# Altium schematic symbol library MCU_NXP_Kinetis.SchLib: 155 symbols (part 5 of 5)
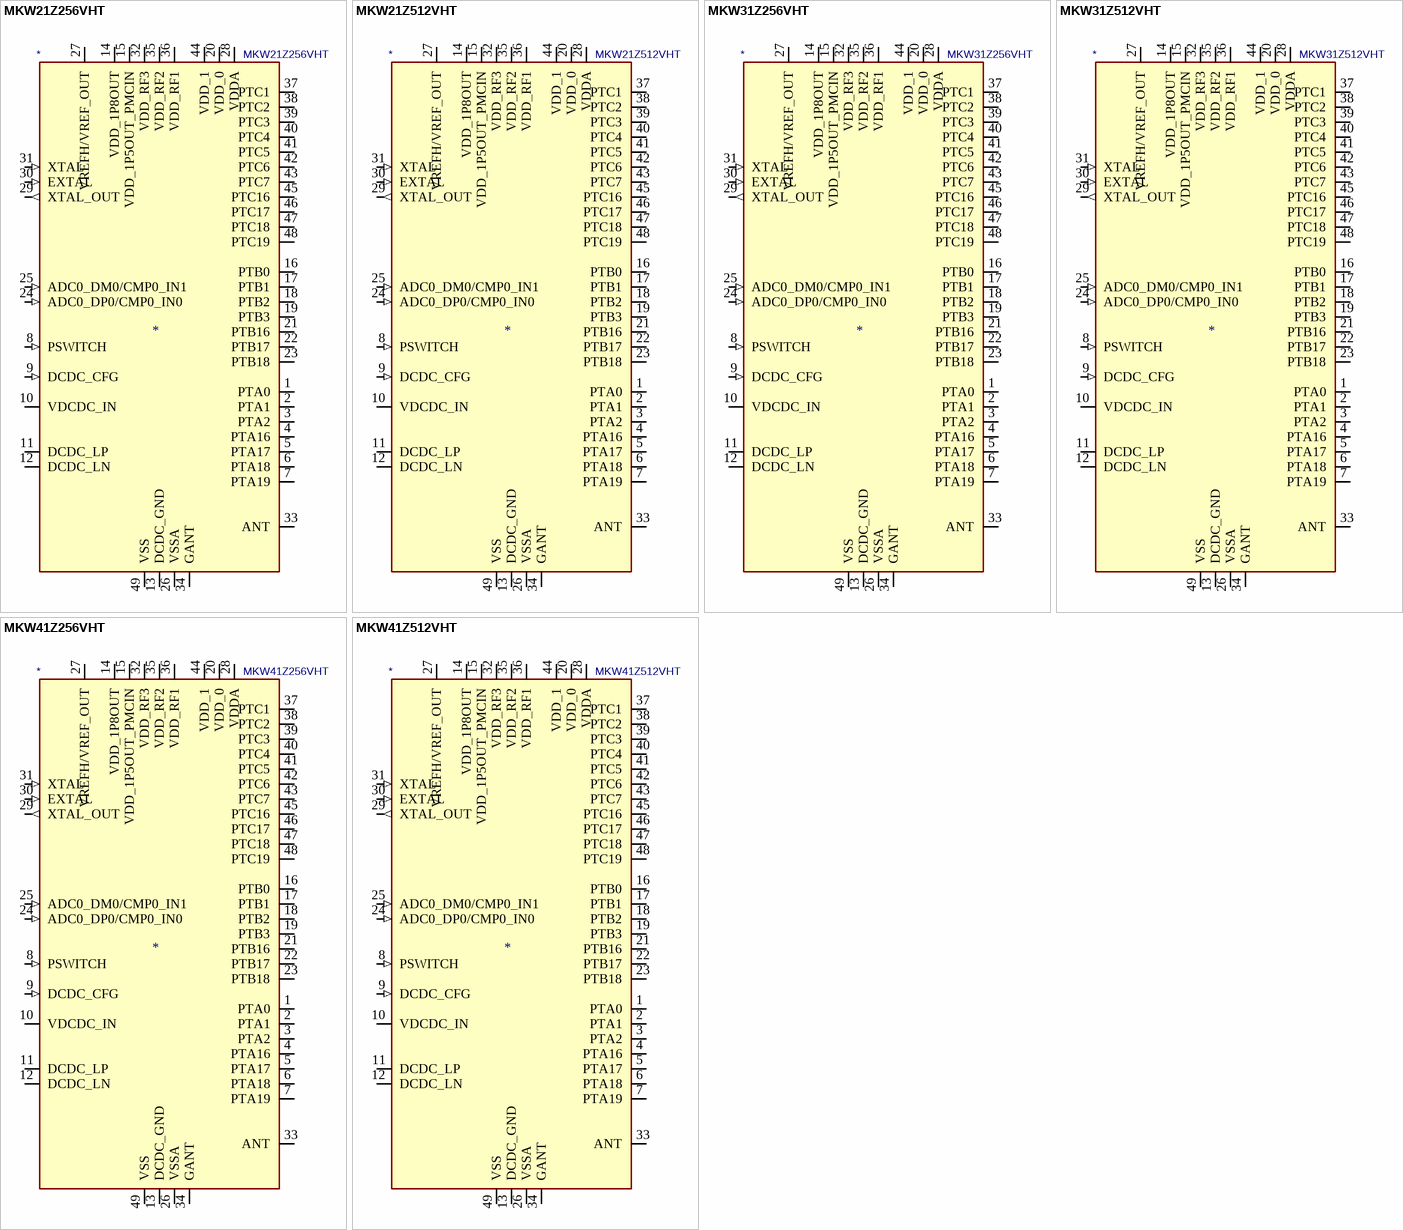
[diagram p34: symbols MKW21Z256VHT to MKW41Z512VHT]

## MKW31Z512VHT
designator *  value MKW31Z512VHT
ki_keywords: Kinetis KW31Z ARM Cortex M0+; ki_description: Kinetis KW41Z-2.4 GHz, Arm Cortex-M0+, 512kB Flash, 128kB SRAM, Dual Mode: Bluetooth LE and generic FSK, LQFN-48; ki_fp_filters: NXP*LQFN*1EP*7x7mm*P0.5mm*; Footprint: Package_DFN_QFN:NXP_LQFN-48-1EP_7x7mm_P0.5mm_EP3.5x3.5mm_16xMask0.45x0.45_ThermalVias; Supplier: https://www.nxp.com/docs/en/data-sheet/MKW41Z512.pdf
footprint NXP_LQFN-48-1EP_7x7mm_P0.5mm_EP3.5x3.5mm_16xMask0.45x0.45_ThermalVias
pins: 1 PTA0 (io), 2 PTA1 (io), 3 PTA2 (io), 4 PTA16 (io), 5 PTA17 (io), 6 PTA18 (io), 7 PTA19 (io), 8 PSWITCH (in), 9 DCDC_CFG (in), 10 VDCDC_IN (power), 11 DCDC_LP, 12 DCDC_LN, 13 DCDC_GND (power), 14 VDD_1P8OUT (power), 15 VDD_1P5OUT_PMCIN (power), 16 PTB0 (io), 17 PTB1 (io), 18 PTB2 (io), 19 PTB3 (io), 20 VDD_0 (power), 21 PTB16 (io), 22 PTB17 (io), 23 PTB18 (io), 24 ADC0_DP0/CMP0_IN0 (in), 25 ADC0_DM0/CMP0_IN1 (in), 26 VSSA (power), 27 VREFH/VREF_OUT (io), 28 VDDA (power), 29 XTAL_OUT (out), 30 EXTAL (in), 31 XTAL (in), 32 VDD_RF3 (power), 33 ANT, 34 GANT (power), 35 VDD_RF2 (power), 36 VDD_RF1 (power), 37 PTC1 (io), 38 PTC2 (io), 39 PTC3 (io), 40 PTC4 (io), 41 PTC5 (io), 42 PTC6 (io), 43 PTC7 (io), 44 VDD_1 (power), 45 PTC16 (io), 46 PTC17 (io), 47 PTC18 (io), 48 PTC19 (io), 49 VSS (power)

## MKW41Z256VHT
designator *  value MKW41Z256VHT
ki_keywords: Kinetis KW41Z ARM Cortex M0+; ki_description: Kinetis KW41Z-2.4 GHz, Arm Cortex-M0+, 256kB Flash, 64kB SRAM, Multi Mode: Bluetooth LE and 802.15.4 Wireless Radio and generic FSK, LQFN-48; ki_fp_filters: NXP*LQFN*1EP*7x7mm*P0.5mm*; Footprint: Package_DFN_QFN:NXP_LQFN-48-1EP_7x7mm_P0.5mm_EP3.5x3.5mm_16xMask0.45x0.45_ThermalVias; Supplier: https://www.nxp.com/docs/en/data-sheet/MKW41Z512.pdf
footprint NXP_LQFN-48-1EP_7x7mm_P0.5mm_EP3.5x3.5mm_16xMask0.45x0.45_ThermalVias
pins: 1 PTA0 (io), 2 PTA1 (io), 3 PTA2 (io), 4 PTA16 (io), 5 PTA17 (io), 6 PTA18 (io), 7 PTA19 (io), 8 PSWITCH (in), 9 DCDC_CFG (in), 10 VDCDC_IN (power), 11 DCDC_LP, 12 DCDC_LN, 13 DCDC_GND (power), 14 VDD_1P8OUT (power), 15 VDD_1P5OUT_PMCIN (power), 16 PTB0 (io), 17 PTB1 (io), 18 PTB2 (io), 19 PTB3 (io), 20 VDD_0 (power), 21 PTB16 (io), 22 PTB17 (io), 23 PTB18 (io), 24 ADC0_DP0/CMP0_IN0 (in), 25 ADC0_DM0/CMP0_IN1 (in), 26 VSSA (power), 27 VREFH/VREF_OUT (io), 28 VDDA (power), 29 XTAL_OUT (out), 30 EXTAL (in), 31 XTAL (in), 32 VDD_RF3 (power), 33 ANT, 34 GANT (power), 35 VDD_RF2 (power), 36 VDD_RF1 (power), 37 PTC1 (io), 38 PTC2 (io), 39 PTC3 (io), 40 PTC4 (io), 41 PTC5 (io), 42 PTC6 (io), 43 PTC7 (io), 44 VDD_1 (power), 45 PTC16 (io), 46 PTC17 (io), 47 PTC18 (io), 48 PTC19 (io), 49 VSS (power)

## MKW41Z512VHT
designator *  value MKW41Z512VHT
ki_keywords: Kinetis KW41Z ARM Cortex M0+; ki_description: Kinetis KW41Z-2.4 GHz, Arm Cortex-M0+, 512kB Flash, 128kB SRAM, Multi Mode: Bluetooth LE and 802.15.4 Wireless Radio and generic FSK, LQFN-48; ki_fp_filters: NXP*LQFN*1EP*7x7mm*P0.5mm*; Footprint: Package_DFN_QFN:NXP_LQFN-48-1EP_7x7mm_P0.5mm_EP3.5x3.5mm_16xMask0.45x0.45_ThermalVias; Supplier: https://www.nxp.com/docs/en/data-sheet/MKW41Z512.pdf
footprint NXP_LQFN-48-1EP_7x7mm_P0.5mm_EP3.5x3.5mm_16xMask0.45x0.45_ThermalVias
pins: 1 PTA0 (io), 2 PTA1 (io), 3 PTA2 (io), 4 PTA16 (io), 5 PTA17 (io), 6 PTA18 (io), 7 PTA19 (io), 8 PSWITCH (in), 9 DCDC_CFG (in), 10 VDCDC_IN (power), 11 DCDC_LP, 12 DCDC_LN, 13 DCDC_GND (power), 14 VDD_1P8OUT (power), 15 VDD_1P5OUT_PMCIN (power), 16 PTB0 (io), 17 PTB1 (io), 18 PTB2 (io), 19 PTB3 (io), 20 VDD_0 (power), 21 PTB16 (io), 22 PTB17 (io), 23 PTB18 (io), 24 ADC0_DP0/CMP0_IN0 (in), 25 ADC0_DM0/CMP0_IN1 (in), 26 VSSA (power), 27 VREFH/VREF_OUT (io), 28 VDDA (power), 29 XTAL_OUT (out), 30 EXTAL (in), 31 XTAL (in), 32 VDD_RF3 (power), 33 ANT, 34 GANT (power), 35 VDD_RF2 (power), 36 VDD_RF1 (power), 37 PTC1 (io), 38 PTC2 (io), 39 PTC3 (io), 40 PTC4 (io), 41 PTC5 (io), 42 PTC6 (io), 43 PTC7 (io), 44 VDD_1 (power), 45 PTC16 (io), 46 PTC17 (io), 47 PTC18 (io), 48 PTC19 (io), 49 VSS (power)